# Altium schematic symbol library myLib.SchLib: 5 symbols
Pins are listed as number, name and electrical type; pins without a type are passive.

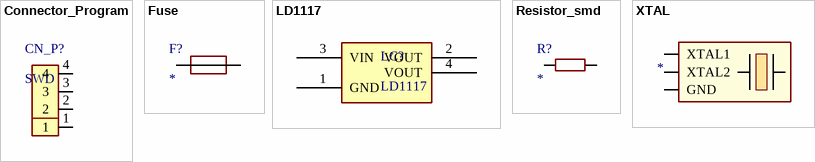
[diagram p0: symbols Connector_Program to XTAL]

## Connector_Program
designator CN_P?, comment SWD
pins: 1, 2, 3, 4

## Fuse
designator F?
pins: 1, 2

## LD1117
designator LC?
footprint LD1117_SOT-223
footprint SOT230P700X180-4N (SOT223, 4-Leads, Body 6,50x7,00mm (avg), Pitch 2,30mm, IPC Medium Density)
pins: 1 GND, 2 VOUT, 3 VIN, 4 VOUT

## Resistor_smd
designator R?
footprint Resistor_smd_0805
pins: 1, 2

## XTAL
designator a
pins: 1 XTAL1, 2 XTAL2, 3 GND